# EAGLE library part 1935200 (library Custom)
Terminal Block PCB Mount (6-pos)
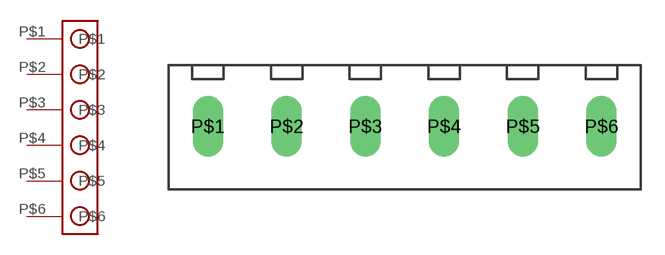
[diagram p0: symbol with the pads of 1935200; footprint 1935200]

Designator prefix CN

## 1935200  [1935200]
P$1  P$1
P$2  P$2
P$3  P$3
P$4  P$4
P$5  P$5
P$6  P$6

## Footprint 1935200 (pad centres in mm)
drill 1.3 long: P$1 0,0; P$2 5,0; P$3 10,0; P$4 15,0; P$5 20,0; P$6 25,0